# Altium footprint library QFN40P1000X1000X90-81N-D.PcbLib: 1 footprints
Each footprint in its own frame and in the unit in brackets; x right, y up, seen from the top. Pads: shape width x height; smd on the part's side, far side on the other; paste and mask are expansions set on the pad; w line width, h text height; cw(c..) or ccw(c..) is an arc to the next point about the centre after c.
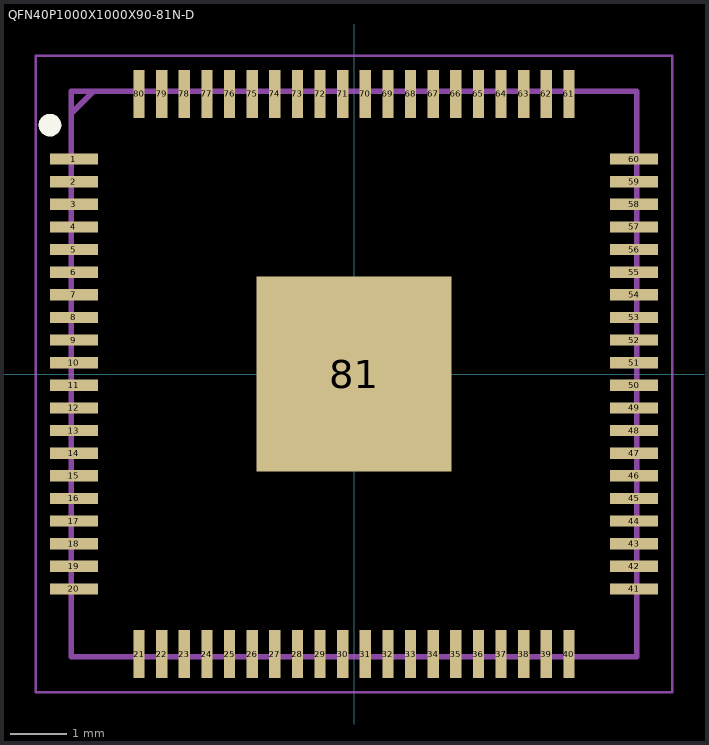
[diagram p0: the footprint, top view; thin cyan lines are the x and y axes]

## QFN40P1000X1000X90-81N-D [mm]
pads (81):
  rect 0.85x0.2 smd: 1(-4.95,3.8) 2(-4.95,3.4) 3(-4.95,3) 4(-4.95,2.6) 5(-4.95,2.2) 6(-4.95,1.8) 7(-4.95,1.4) 8(-4.95,1) 9(-4.95,0.6) 10(-4.95,0.2) 11(-4.95,-0.2) 12(-4.95,-0.6) 13(-4.95,-1) 14(-4.95,-1.4) 15(-4.95,-1.8) 16(-4.95,-2.2) 17(-4.95,-2.6) 18(-4.95,-3) 19(-4.95,-3.4) 20(-4.95,-3.8) 41(4.95,-3.8) 42(4.95,-3.4) 43(4.95,-3) 44(4.95,-2.6) 45(4.95,-2.2) 46(4.95,-1.8) 47(4.95,-1.4) 48(4.95,-1) 49(4.95,-0.6) 50(4.95,-0.2) 51(4.95,0.2) 52(4.95,0.6) 53(4.95,1) 54(4.95,1.4) 55(4.95,1.8) 56(4.95,2.2) 57(4.95,2.6) 58(4.95,3) 59(4.95,3.4) 60(4.95,3.8)
  rect 0.2x0.85 smd: 21(-3.8,-4.95) 22(-3.4,-4.95) 23(-3,-4.95) 24(-2.6,-4.95) 25(-2.2,-4.95) 26(-1.8,-4.95) 27(-1.4,-4.95) 28(-1,-4.95) 29(-0.6,-4.95) 30(-0.2,-4.95) 31(0.2,-4.95) 32(0.6,-4.95) 33(1,-4.95) 34(1.4,-4.95) 35(1.8,-4.95) 36(2.2,-4.95) 37(2.6,-4.95) 38(3,-4.95) 39(3.4,-4.95) 40(3.8,-4.95) 61(3.8,4.95) 62(3.4,4.95) 63(3,4.95) 64(2.6,4.95) 65(2.2,4.95) 66(1.8,4.95) 67(1.4,4.95) 68(1,4.95) 69(0.6,4.95) 70(0.2,4.95) 71(-0.2,4.95) 72(-0.6,4.95) 73(-1,4.95) 74(-1.4,4.95) 75(-1.8,4.95) 76(-2.2,4.95) 77(-2.6,4.95) 78(-3,4.95) 79(-3.4,4.95) 80(-3.8,4.95)
  rect 3.45x3.45 smd: 81(0,0)
Top Overlay:
  circle w0.2: c-5.375,4.4 r0.1
Mechanical 15:
  lines w0.1: -5,4.6 -4.6,5 ; -5,-5 5,-5 5,5 -5,5 -5,-5
Mechanical 20:
  lines w0.05: -5.625,-5.625 5.625,-5.625 5.625,5.625 -5.625,5.625 -5.625,-5.625